# Altium footprint library WE-SLM.PcbLib: 1 footprints
Each footprint in its own frame and in the unit in brackets; x right, y up, seen from the top. Pads: shape width x height; smd on the part's side, far side on the other; paste and mask are expansions set on the pad; w line width, h text height; cw(c..) or ccw(c..) is an arc to the next point about the centre after c.
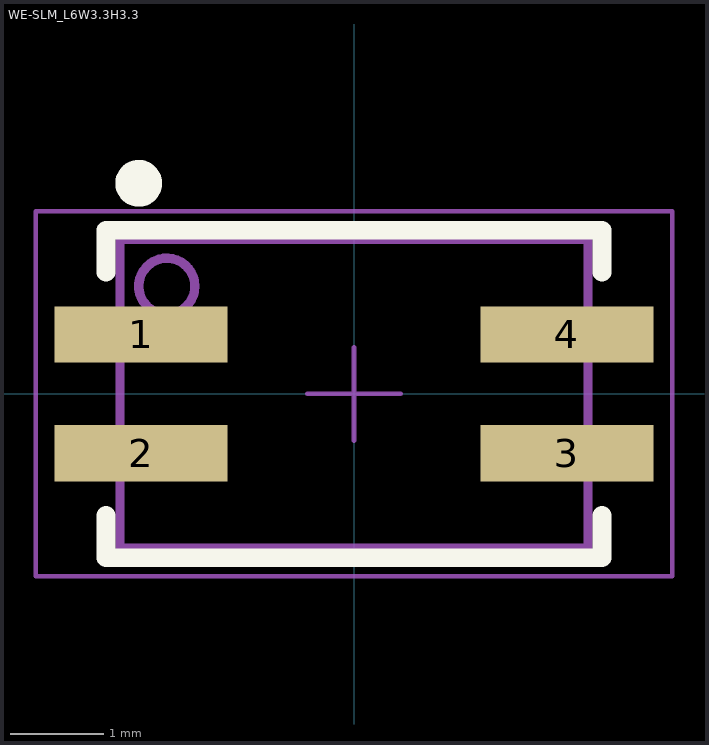
[diagram p0: the footprint, top view; thin cyan lines are the x and y axes]

## WE-SLM_L6W3.3H3.3 [mm] "SMD Inductor, 4-Leads, Body 5x3.3mm"
height 3.3
pads (4):
  rect 1.85x0.6 smd: 1(-2.275,0.635) 2(-2.275,-0.635) 3(2.275,-0.635) 4(2.275,0.635)
Top Overlay:
  circle w0.25: c-2.3,2.25 r0.125
  lines w0.2: -2.65,-1.3 -2.65,-1.75 2.65,-1.75 2.65,-1.3 ; -2.65,1.3 -2.65,1.75 2.65,1.75 2.65,1.3
Top Designator:
  text ".Designator" at -5.998,-0.4 h1.2
Top Component Outline:
  circle w0.1: c-2,1.15 r0.3
  lines w0.1: -2.5,-1.65 -2.5,1.65 2.5,1.65 2.5,-1.65 -2.5,-1.65
Top 3D Body:
  circle w0.1: c-2,1.15 r0.3
  lines w0.1: -2.5,-1.65 -2.5,1.65 2.5,1.65 2.5,-1.65 -2.5,-1.65
Top Courtyard:
  lines w0.05: -0.5,0 0.5,0 ; 0,-0.5 0,0.5 ; -3.4,-1.95 -3.4,1.95 3.4,1.95 3.4,-1.95 -3.4,-1.95
3D body "WE-SLM_744242.stp": height 3.25, standoff 0, extent -3,-1.65 3,1.65